# Altium schematic symbol library RGB-Cube.SchLib: 8 symbols
Pins are listed as number, name and electrical type; pins without a type are passive.

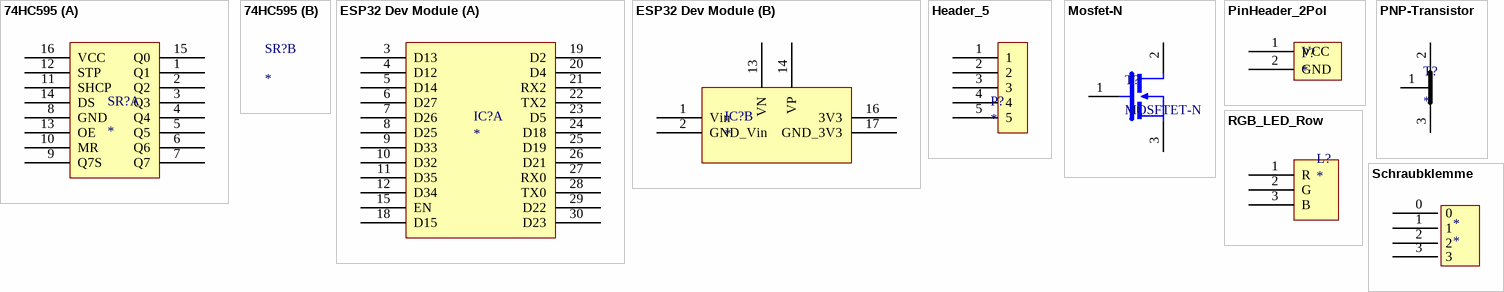
[diagram p0: symbols 74HC595 to Schraubklemme]

## 74HC595
designator SR?
74HC595 Farnell:  2098004
footprint SOP16
part A pins: 1 Q1, 2 Q2, 3 Q3, 4 Q4, 5 Q5, 6 Q6, 7 Q7, 8 GND, 9 Q7S, 10 MR, 11 SHCP, 12 STP, 13 OE, 14 DS, 15 Q0, 16 VCC

## ESP32 Dev Module
designator IC?
footprint ESP32 Dev Module (https://github.com/espressif/arduino-esp32/issues/544)
part A pins: 3 D13, 4 D12, 5 D14, 6 D27, 7 D26, 8 D25, 9 D33, 10 D32, 11 D35, 12 D34, 15 EN, 18 D15, 19 D2, 20 D4, 21 RX2, 22 TX2, 23 D5, 24 D18, 25 D19, 26 D21, 27 RX0, 28 TX0, 29 D22, 30 D23
part B pins: 1 Vin, 2 GND_Vin, 13 VN, 14 VP, 16 3V3, 17 GND_3V3

## Header_5
designator P?
footprint PinHeader (Reichelt: RND 205-00675)
pins: 1, 2, 3, 4, 5

## Mosfet-N
designator T?, comment MOSFTET-N
Reichelt: IRF 3708; Supplier 1: Farnell
footprint TO220-3 (https://www.reichelt.de/mosfet-n-ch-55v-17a-45w-to-220ab-irfz-24n-p41737.html?&trstct=pos_0)
pins: 1, 2, 3

## PinHeader_2Pol
designator P?
footprint PinHeader_2Pol (Reichelt: PS 25/2G WS)
pins: 1 VCC, 2 GND

## PNP-Transistor
designator T?
Reichelt: BCP 51-16 NXP
footprint SOT-223 (BCP 51-16 NXP)
pins: 1 Base, 2 Collector, 3 Emitter

## RGB_LED_Row
designator L?
footprint LED_Row
pins: 1 R, 2 G, 3 B

## Schraubklemme
designator *
Reichelt: RND 205-00003
footprint Schraubklemme 4Pol (Reichelt: RND 205-00003)
pins: 0, 1, 2, 3